# EAGLE library part DRF1276G (library DORJI DRF1276G)
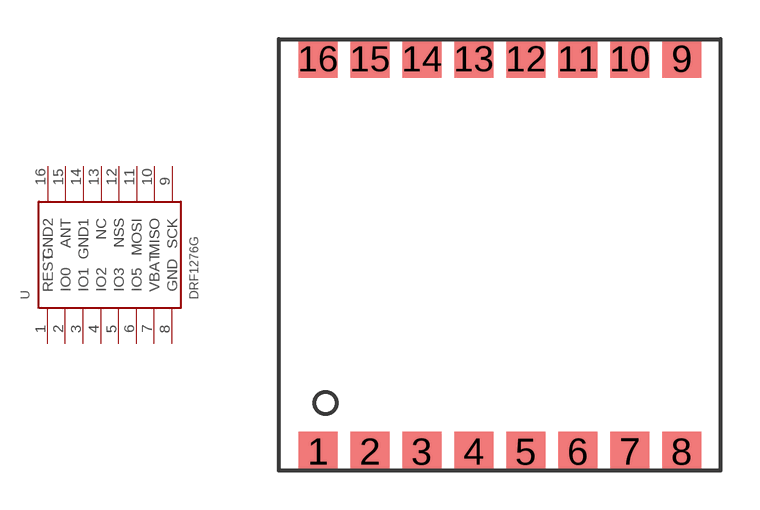
[diagram p0: symbol with the pads of DRV1276G_SMD_PKD; footprint DRV1276G_SMD_PKD]

Designator prefix -

## DRF1276G  [DRV1276G_SMD_PKD]
1  REST
2  IO0
3  IO1
4  IO2
5  IO3
6  IO5
7  VBAT
8  GND
9  SCK
10  MISO
11  MOSI
12  NSS
13  NC
14  GND1
15  ANT
16  GND2

## Footprint DRV1276G_SMD_PKD (pad centres in mm)
smd 1.5 x 1.49: 1 0,-7.555; 2 2,-7.555; 3 4,-7.555; 4 6,-7.555; 5 8,-7.555; 6 10,-7.555; 7 12,-7.555; 8 14,-7.555; 9 14,7.555; 10 12,7.555; 11 10,7.555; 12 8,7.555; 13 6,7.555; 14 4,7.555; 15 2,7.555; 16 0,7.555